# Altium footprint library 105848.PcbLib: 26 footprints (part 2 of 2)
Each footprint in its own frame and in the unit in brackets; x right, y up, seen from the top. Pads: shape width x height; smd on the part's side, far side on the other; paste and mask are expansions set on the pad; w line width, h text height; cw(c..) or ccw(c..) is an arc to the next point about the centre after c.
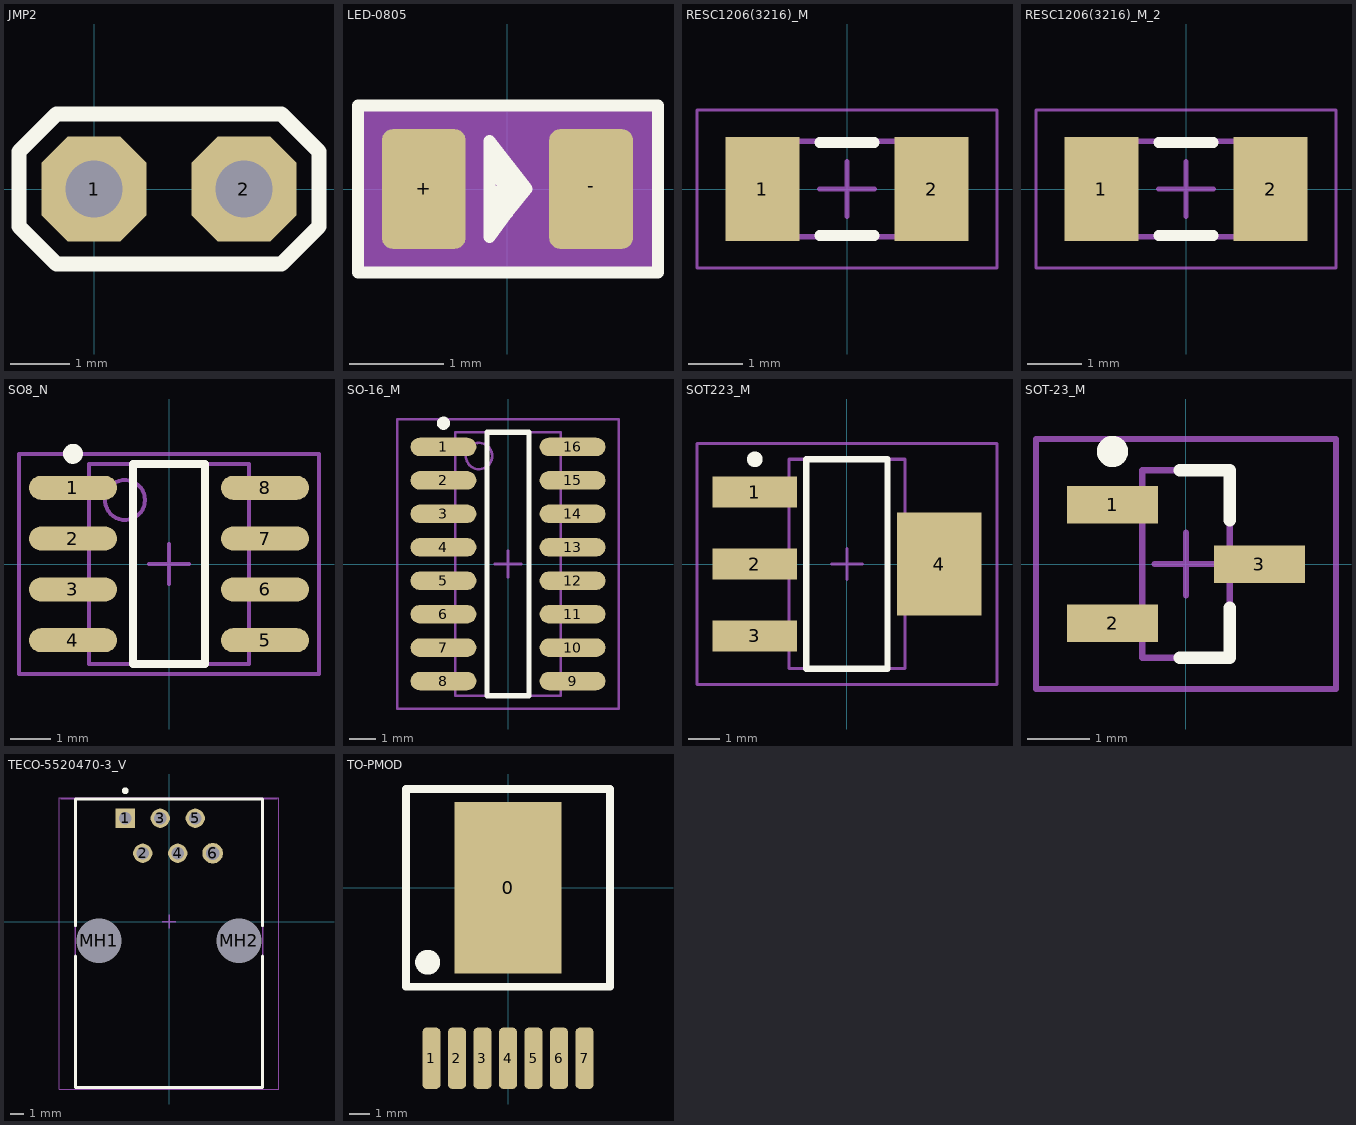
[diagram p1: the footprints below, top view; thin cyan lines are the x and y axes]

## JMP2 [mil]
pads (2):
  oct 70x70 hole 38: 1(0,0) 2(100,0)
Top Overlay:
  lines w10: -50,-25 -50,25 -25,50 125,50 150,25 150,-25 125,-50 -25,-50 -50,-25

## LED-0805 [mil]
pads (2):
  rrect25% 35x50 smd: +(-35,0) -(35,0)
Top Overlay:
  lines w5: -7.5,-10 0,-10 ; -7.5,-10 -7.5,-20 0,-10 ; -7.5,-10 -7.5,0 ; -7.5,0 0,-10 ; -7.5,0 3,-5 -7.5,10 ; -7.5,0 -7.5,10 ; -7.5,10 5,-2.5 -7.5,20 ; -7.5,10 -7.5,20 ; -7.5,20 8,0 0,-10 ; -62.5,-35 -62.5,35 63,35 63,-35 -62.5,-35
Mechanical 16:
  rectangle: -62.5,-35 63,35
3D body "0805 (2012) LED Base.step": height 25.33, standoff 0, extent -39.38,-24.61 39.36,24.6

## RESC1206(3216)_M [mm]
pads (2):
  rect 1.35x1.9 smd: 1(-1.55,0) 2(1.55,0)
Top Overlay:
  lines w0.2: -0.5,-0.85 0.5,-0.85 ; -0.5,0.85 0.5,0.85
Mechanical 13:
  lines w0.1: -1.675,-0.875 1.675,-0.875 1.675,0.875 -1.675,0.875 -1.675,-0.875
Mechanical 15:
  lines w0.05: -2.75,-1.45 2.75,-1.45 2.75,1.45 -2.75,1.45 -2.75,-1.45
  lines w0.1: -0.5,0 0.5,0 ; 0,-0.5 0,0.5
3D body: height 0.75, standoff 0, extent -1.674,-0.874 -1.18,0.875
3D body: height 0.75, standoff 0, extent -1.18,-0.874 1.181,0.875
3D body: height 0.75, standoff 0, extent 1.181,-0.874 1.675,0.875

## RESC1206(3216)_M_2 [mm]
pads (2):
  rect 1.35x1.9 smd: 1(-1.55,0) 2(1.55,0)
Top Overlay:
  lines w0.2: -0.5,-0.85 0.5,-0.85 ; -0.5,0.85 0.5,0.85
Mechanical 13:
  lines w0.1: -1.675,-0.875 1.675,-0.875 1.675,0.875 -1.675,0.875 -1.675,-0.875
Mechanical 15:
  lines w0.05: -2.75,-1.45 2.75,-1.45 2.75,1.45 -2.75,1.45 -2.75,-1.45
  lines w0.1: -0.5,0 0.5,0 ; 0,-0.5 0,0.5
3D body: height 0.75, standoff 0, extent -1.674,-0.874 -1.18,0.875
3D body: height 0.75, standoff 0, extent -1.18,-0.874 1.181,0.875
3D body: height 0.75, standoff 0, extent 1.181,-0.874 1.675,0.875

## SO8_N [mm]
pads (8):
  oval 2.2x0.6 smd: 1(-2.4,1.905) 2(-2.4,0.635) 3(-2.4,-0.635) 4(-2.4,-1.905) 5(2.4,-1.905) 6(2.4,-0.635) 7(2.4,0.635) 8(2.4,1.905)
Top Overlay:
  circle w0.25: c-2.4,2.755 r0.125
  lines w0.2: -0.9,-2.5 -0.9,2.5 0.9,2.5 0.9,-2.5 -0.9,-2.5
Mechanical 13:
  circle w0.1: c-1.1,1.6 r0.5
  lines w0.1: -2,-2.5 -2,2.5 2,2.5 2,-2.5 -2,-2.5
Mechanical 15:
  lines w0.1: -0.5,0 0.5,0 ; 0,-0.5 0,0.5 ; -3.75,-2.75 -3.75,2.75 3.75,2.75 3.75,-2.75 -3.75,-2.75
3D body: height 1.75, standoff 0, extent -2,-2.5 2,2.5
3D body "SOIC-8.STEP": height 1.75, standoff 0, extent -3,-2.45 3,2.45

## SO-16_M [mm]
pads (16):
  oval 2.5x0.7 smd: 1(-2.45,4.445) 2(-2.45,3.175) 3(-2.45,1.905) 4(-2.45,0.635) 5(-2.45,-0.635) 6(-2.45,-1.905) 7(-2.45,-3.175) 8(-2.45,-4.445) 9(2.45,-4.445) 10(2.45,-3.175) 11(2.45,-1.905) 12(2.45,-0.635) 13(2.45,0.635) 14(2.45,1.905) 15(2.45,3.175) 16(2.45,4.445)
Top Overlay:
  circle w0.25: c-2.45,5.345 r0.125
  lines w0.2: -0.8,-5 -0.8,5 0.8,5 0.8,-5 -0.8,-5
Mechanical 13:
  circle w0.1: c-1.1,4.1 r0.5
  lines w0.1: -2,-5 -2,5 2,5 2,-5 -2,-5
Mechanical 15:
  lines w0.1: -0.5,0 0.5,0 ; 0,-0.5 0,0.5 ; -4.2,-5.5 -4.2,5.5 4.2,5.5 4.2,-5.5 -4.2,-5.5
3D body: height 1.75, standoff 0, extent -2,-5 2,5

## SOT223_M [mm]
pads (4):
  rect 2.7x1 smd: 1(-2.95,2.3) 2(-2.95,0) 3(-2.95,-2.3)
  rect 2.7x3.3 smd: 4(2.95,0)
Top Overlay:
  circle w0.25: c-2.95,3.35 r0.125
  lines w0.2: -1.3,-3.35 -1.3,3.35 1.3,3.35 1.3,-3.35 -1.3,-3.35
Mechanical 13:
  lines w0.1: -1.85,-3.35 -1.85,3.35 1.85,3.35 1.85,-3.35 -1.85,-3.35
Mechanical 15:
  lines w0.1: -0.5,0 0.5,0 ; 0,-0.5 0,0.5 ; -4.8,-3.85 -4.8,3.85 4.8,3.85 4.8,-3.85 -4.8,-3.85
3D body: height 1.7, standoff 0, extent -1.85,-3.35 1.85,3.35

## SOT-23_M [mm]
pads (3):
  rect 1.45x0.6 smd: 1(-1.175,0.95) 2(-1.175,-0.95) 3(1.175,0)
Top Overlay:
  circle w0.25: c-1.175,1.8 r0.125
  lines w0.2: -0.1,-1.5 0.7,-1.5 0.7,-0.7 ; -0.1,1.5 0.7,1.5 0.7,0.7
Mechanical 13:
  lines w0.1: -0.7,-1.5 0.7,-1.5 0.7,1.5 -0.7,1.5 -0.7,-1.5
Mechanical 15:
  lines w0.1: -0.5,0 0.5,0 ; 0,-0.5 0,0.5 ; -2.4,-2 2.4,-2 2.4,2 -2.4,2 -2.4,-2
3D body: height 1.1, standoff 0, extent -0.7,-1.5 0.7,1.5
3D body "SW3dPS-SOT-23.STEP": height 0.97, standoff -0.03, extent -1.345,-1.448 1.075,1.448

## TECO-5520470-3_V [mm]
pads (8):
  rect 1.4x1.4 hole 0.89: 1(-3.175,7.5)
  round 1.4 hole 0.89: 2(-1.905,4.96) 3(-0.635,7.5) 4(0.635,4.96) 5(1.905,7.5)
  round 1.5 hole 1: 6(3.175,4.96)
  round 3 hole 3.25 unplated: MH1(-5.075,-1.39) MH2(5.085,-1.39)
Top Overlay:
  circle w0.25: c-3.175,9.5 r0.125
  lines w0.2: -6.795,-2.5 -6.795,-12.06 6.795,-12.06 6.795,-2.5 ; -6.795,-0.3 -6.795,8.9 6.795,8.9 6.795,-0.3
Mechanical 13:
  lines w0.05: -7.874,8.9 7.874,8.9
  lines w0.1: -6.795,-12.06 -6.795,8.9 6.795,8.9 6.795,-12.06 -6.795,-12.06
Mechanical 15:
  lines w0.05: -7.974,-12.16 -7.974,9 7.974,9 7.974,-12.16 -7.974,-12.16
  lines w0.1: -0.5,0 0.5,0 ; 0,-0.5 0,0.5
3D body "5520470-3.stp": height 16.04, standoff -3.43, extent -7.874,-12.06 7.874,8.9

## TO-PMOD [mm]
pads (8):
  rect 5.35x8.54 smd: 0(0,0)
  rrect50% 0.89x3.06 smd: 1(-3.81,-8.48) 2(-2.54,-8.48) 3(-1.27,-8.48) 4(0,-8.48) 5(1.27,-8.48) 6(2.54,-8.48) 7(3.81,-8.48)
Top Overlay:
  circle w1: c-4,-3.7 r0.12
  lines w0.381: -5.08,-4.925 5.08,-4.925 5.08,4.925 -5.08,4.925 -5.08,-4.925